# EAGLE library part DG190 (library ic)
DG190: Dual SPDT analog switch (Vishay) 2× combined "on" and "off" switch ±15V, 30Ω Ron, 425ns tswitch TTL level inputs, separate digital supply
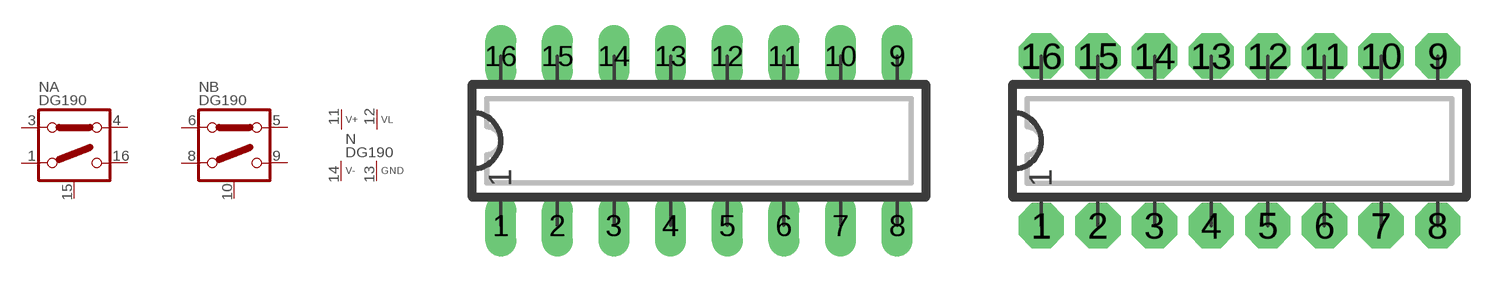
[diagram p127: symbol with the pads of DIP16L; footprints DIP16L, DIP16N]

Designator prefix N; gates A=SD1X1ONOFF B=SD1X1ONOFF P=V+-LGND

## DG190  [DIP16L]
1  A:ON1
3  A:OFF1
4  A:OFF2
5  B:OFF2
6  B:OFF1
8  B:ON1
9  B:ON2
10  B:D1  in
11  P:V+  pwr
12  P:VL  pwr
13  P:GND  pwr
14  P:V-  pwr
15  A:D1  in
16  A:ON2

## DG190L  [DIP16L]
Pads as for DIP16L

## DG190N  [DIP16N]
Pads as for DIP16L

## DG190R  [DIP16R]
Pads as for DIP16L

## Footprint DIP16L (pad centres in mm)
DIP-16, long pads Standard IC package, 16 pins
drill 0.813 pad 1.397 long: 1 -8.89,-3.81; 2 -6.35,-3.81; 3 -3.81,-3.81; 4 -1.27,-3.81; 5 1.27,-3.81; 6 3.81,-3.81; 7 6.35,-3.81; 8 8.89,-3.81; 9 8.89,3.81; 10 6.35,3.81; 11 3.81,3.81; 12 1.27,3.81; 13 -1.27,3.81; 14 -3.81,3.81; 15 -6.35,3.81; 16 -8.89,3.81

## Footprint DIP16N (pad centres in mm)
DIP-16 Standard IC package, 16 pins
drill 0.813 pad 2.032 octagon: 1 -8.89,-3.81; 2 -6.35,-3.81; 3 -3.81,-3.81; 4 -1.27,-3.81; 5 1.27,-3.81; 6 3.81,-3.81; 7 6.35,-3.81; 8 8.89,-3.81; 9 8.89,3.81; 10 6.35,3.81; 11 3.81,3.81; 12 1.27,3.81; 13 -1.27,3.81; 14 -3.81,3.81; 15 -6.35,3.81; 16 -8.89,3.81

## Footprint DIP16R (pad centres in mm)
DIP-16, reduced pads Standard IC package, 16 pins
drill 0.813 pad 1.397 square: 1 -8.89,-3.81; 2 -6.35,-3.81; 3 -3.81,-3.81; 4 -1.27,-3.81; 5 1.27,-3.81; 6 3.81,-3.81; 7 6.35,-3.81; 8 8.89,-3.81; 9 8.89,3.81; 10 6.35,3.81; 11 3.81,3.81; 12 1.27,3.81; 13 -1.27,3.81; 14 -3.81,3.81; 15 -6.35,3.81; 16 -8.89,3.81